# Altium schematic symbol library SML-D12U1WT86.SchLib: 1 symbol
Pins are listed as number, name and electrical type; pins without a type are passive.

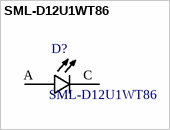
[diagram p0: symbol SML-D12U1WT86]

## SML-D12U1WT86
designator D?
SML-D12 Series Red 0603 Diffused 63 mcd 2.2 V Surface Mount LED; MF: Rohm; Digi-Key_Purchase_URL: https://www.digikey.com/product-detail/en/rohm-semiconductor/SML-D12U1WT86/SML-D12U1WT86CT-ND/5843858?utm_source=snapeda&utm_medium=aggregator&utm_campaign=symbol; Digi-Key_Part_Number: SML-D12U1WT86CT-ND; Package: 0603 Rohm; SnapEDA_Link: https://www.snapeda.com/parts/SML-D12U1WT86/Rohm/view-part/?ref=snap; MP: SML-D12U1WT86; Value: *
footprint *LED_SML-D12Y1WT86_SML-D12U1WT86(Primary)
pins: A, C